# Altium footprint library passive_resistor.PcbLib: 2 footprints
Each footprint in its own frame and in the unit in brackets; x right, y up, seen from the top. Pads: shape width x height; smd on the part's side, far side on the other; paste and mask are expansions set on the pad; w line width, h text height; cw(c..) or ccw(c..) is an arc to the next point about the centre after c.
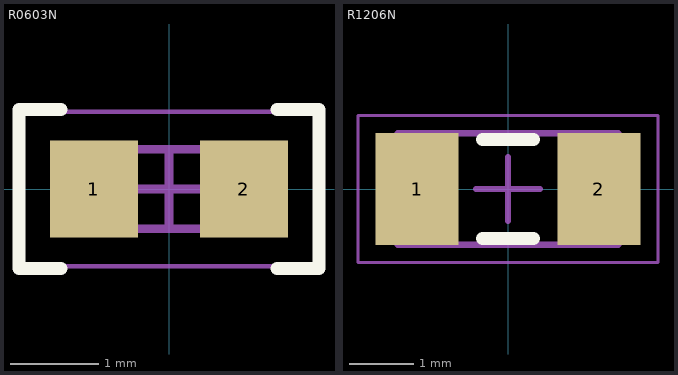
[diagram p0: the footprints below, top view; thin cyan lines are the x and y axes]

## R0603N [mm] "Chip Resistor, 2-Leads, Body 1.60x0.80mm, IPC Medium Density"
height 0.45
pads (2):
  rect 1x1.1 smd: 1(-0.85,0) 2(0.85,0)
Top Overlay:
  lines w0.15: -1.225,-0.9 -1.7,-0.9 -1.7,0.9 -1.225,0.9 ; 1.225,-0.9 1.7,-0.9 1.7,0.9 1.225,0.9
Top 3D Body (Mech13):
  lines w0.1: -0.85,-0.45 0.85,-0.45 0.85,0.45 -0.85,0.45 -0.85,-0.45
Top Courtyard:
  lines w0.05: -1.675,-0.875 1.675,-0.875 1.675,0.875 -1.675,0.875 -1.675,-0.875
  lines w0.1: -0.45,0 0.45,0 ; 0,-0.45 0,0.45
3D body "R0603N.step": height 0.45, standoff 0, extent -0.85,-0.45 0.85,0.45

## R1206N [mm] "Chip Resistor, 2-Leads, Body 3.20x1.60mm, IPC Medium Density"
height 0.75
pads (2):
  rect 1.3x1.75 smd: 1(-1.425,0) 2(1.425,0)
Top Overlay:
  lines w0.2: -0.4,-0.775 0.4,-0.775 ; -0.4,0.775 0.4,0.775
Top 3D Body (Mech13):
  lines w0.1: -1.725,-0.875 1.725,-0.875 1.725,0.875 -1.725,0.875 -1.725,-0.875
Top Courtyard:
  lines w0.05: -2.35,-1.15 2.35,-1.15 2.35,1.15 -2.35,1.15 -2.35,-1.15
  lines w0.1: -0.5,0 0.5,0 ; 0,-0.5 0,0.5
3D body "R1206N.step": height 0.75, standoff 0, extent -1.725,-0.875 1.725,0.875